# Altium footprint library 2020-11-26_03-08-22.PcbLib: 1 footprints
Each footprint in its own frame and in the unit in brackets; x right, y up, seen from the top. Pads: shape width x height; smd on the part's side, far side on the other; paste and mask are expansions set on the pad; w line width, h text height; cw(c..) or ccw(c..) is an arc to the next point about the centre after c.
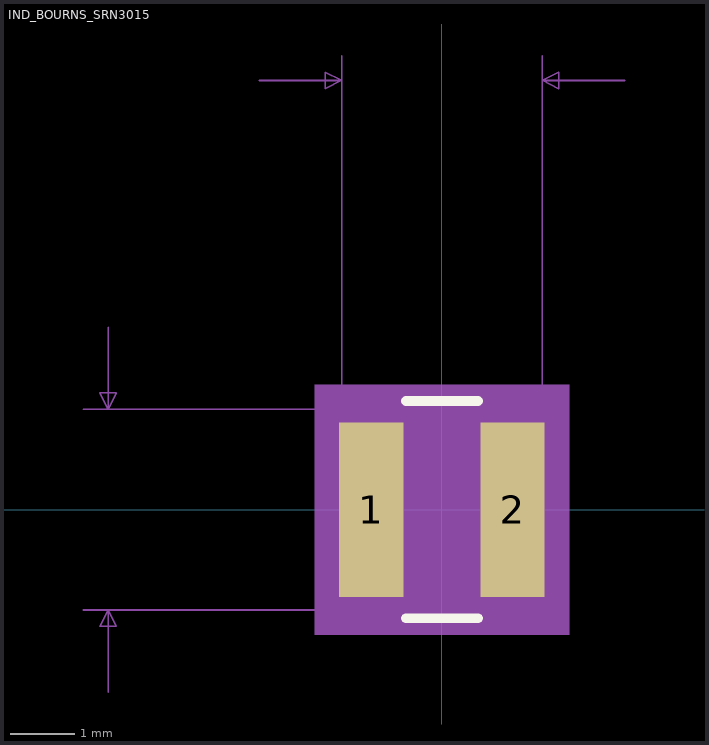
[diagram p0: the footprint, top view; thin cyan lines are the x and y axes]

## IND_BOURNS_SRN3015 [mil]
pads (2):
  rect 39x106 smd paste+0 mask+0: 1(-43,0) 2(43,0)
Top Overlay:
  lines w6: -21.88,-66 21.88,-66 ; -21.88,66 21.88,66
Mechanical 5:
  region: 77.5,-76 -77.5,-76 -77.5,76 77.5,76
Mechanical 7:
  lines w1: -218,-61 71,-61 ; -218,61 71,61 ; -203,-111 -203,-61 ; -203,111 -203,61 ; -111,261 -61,261 ; -61,63 -61,276 ; 61,63 61,276 ; 111,261 61,261 ; -203,-61 -208,-71 -198,-71 -203,-61 ; -203,61 -208,71 -198,71 -203,61 ; -61,261 -71,266 -71,256 -61,261 ; 61,261 71,266 71,256 61,261
  text "Default Pad Style: RX39Y106D0T" at -375,-271 h50
  text "Alt 1 Pad Style: OX60Y90D30P" at -350,-321 h50
  text "Alt 2 Pad Style: EX90Y60D30P" at -350,-371 h50
  text "0.122in/3.099mm" at -93.75,281 h25
  text "0.122in/3.099mm" at -410.5,-12.5 h25
Mechanical 13:
  circle w0: c-58,0 r0
  lines w1: -61,-61 61,-61 61,61 -61,61 -61,-61
Mechanical 15:
  region: -71,-63 -72.5,-63 -72.5,63 -71,63 -71,71 71,71 71,63 72.5,63 72.5,-63 71,-63 71,-71 -71,-71
  lines w6: -72.5,-63 -72.5,63 -71,63 -71,71 71,71 71,63 72.5,63 72.5,-63 71,-63 71,-71 -71,-71 -71,-63 -72.5,-63
3D body: height 10, standoff 0, extent 0,0 10,10